# Altium schematic symbol library 稳压器件.SchLib: 4 symbols
Pins are listed as number, name and electrical type; pins without a type are passive.

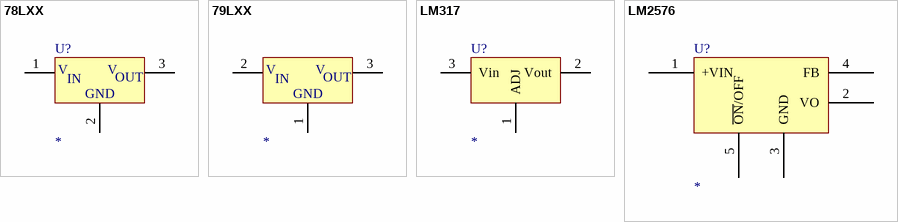
[diagram p0: symbols 78LXX to LM2576]

## 78LXX
designator U?
3-Terminal Positive Voltage Regulator
footprint TO-220
footprint TO-252AA
pins: 1 VIN, 2 GND, 3 VOUT
text: V; IN; OUT

## 79LXX
designator ?
footprint TO-220
footprint TO-252AA
pins: 1 GND, 2 VIN, 3 VOUT
text: V; IN; OUT

## LM317
designator U?
3-Terminal Adjustable Positive Voltage Regulator
footprint TO-220
pins: 1 ADJ, 2 Vout, 3 Vin

## LM2576
designator U?
footprint TO-220H-5L
footprint TO-263-5L
pins: 0 PAD hidden to PAD, 1 +VIN, 2 VO, 3 GND, 4 FB, 5 ~{ON}/OFF